# Altium footprint library MOLEX_90121-0764.PcbLib: 1 footprints
Each footprint in its own frame and in the unit in brackets; x right, y up, seen from the top. Pads: shape width x height; smd on the part's side, far side on the other; paste and mask are expansions set on the pad; w line width, h text height; cw(c..) or ccw(c..) is an arc to the next point about the centre after c.
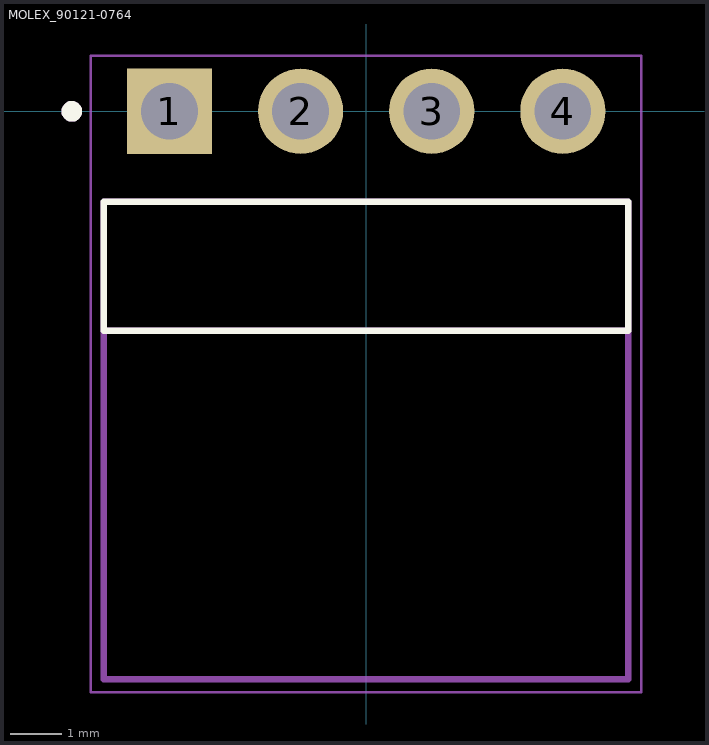
[diagram p0: the footprint, top view; thin cyan lines are the x and y axes]

## MOLEX_90121-0764 [mm]
pads (4):
  rect 1.65x1.65 hole 1.1: 1(-3.81,0)
  round 1.65 hole 1.1: 2(-1.27,0) 3(1.27,0) 4(3.81,0)
Top Overlay:
  circle w0.2: c-5.7,0 r0.1
  lines w0.127: -5.08,-4.25 -5.08,-1.75 5.08,-1.75 5.08,-4.25 -5.08,-4.25
Mechanical 13:
  circle w0.2: c-5.7,0 r0.1
  lines w0.127: -5.08,-4.25 5.08,-4.25 ; -5.08,-4.25 -5.08,-1.75 5.08,-1.75 5.08,-4.25 ; -5.08,-4.25 -5.08,-11 5.08,-11 5.08,-4.25
Mechanical 15:
  lines w0.05: -5.33,-11.25 5.33,-11.25 5.33,1.075 -5.33,1.075 -5.33,-11.25